# Altium footprint library 610 3xx 243 021.PcbLib: 8 footprints
Each footprint in its own frame and in the unit in brackets; x right, y up, seen from the top. Pads: shape width x height; smd on the part's side, far side on the other; paste and mask are expansions set on the pad; w line width, h text height; cw(c..) or ccw(c..) is an arc to the next point about the centre after c.
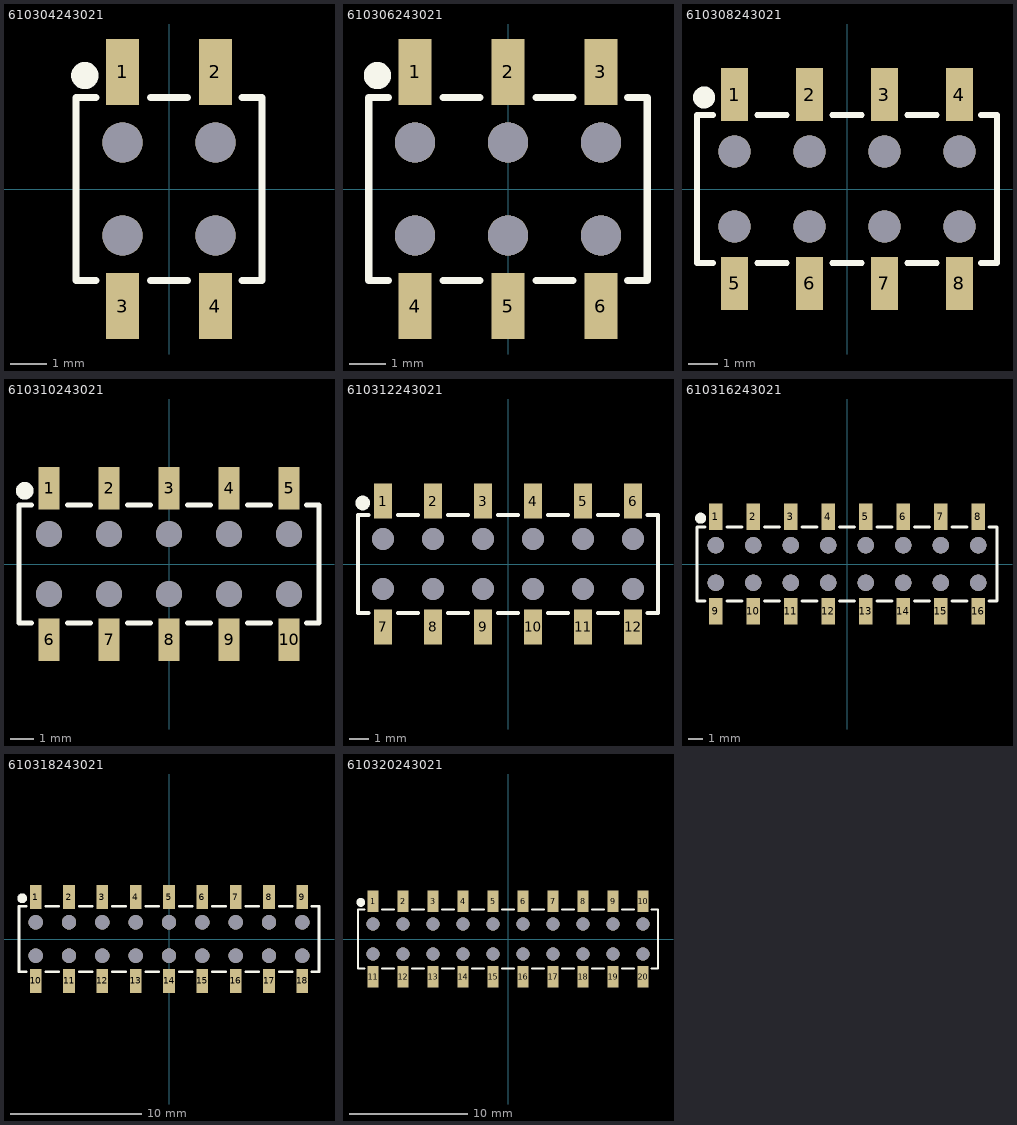
[diagram p0: the footprints below, top view; thin cyan lines are the x and y axes]

## 610304243021 [mm] "SMT Dual Socket Header Bottom Entry, 4 pins"
height 3.7
pads (8):
  rect 0.9x1.8 smd: 1(-1.27,3.2) 2(1.27,3.2) 3(-1.27,-3.2) 4(1.27,-3.2)
  round 1.1 hole 1.1 unplated: ""(-1.27,-1.27) ""(-1.27,1.27) ""(1.27,-1.27) ""(1.27,1.27)
Top Overlay:
  circle w0.5: c-2.3,3.1 r0.122
  lines w0.2: -2,-2.5 -2.54,-2.5 -2.54,2.5 -2,2.5 ; -0.5,-2.5 0.5,-2.5 ; -0.5,2.5 0.5,2.5 ; 2,-2.5 2.54,-2.5 2.54,2.5 2,2.5
3D body "610304243021.stp": height 3.7, standoff 0, extent -2.54,-3.603 2.54,3.603

## 610306243021 [mm] "SMT Dual Socket Header Bottom Entry, 6 pins"
height 3.7
pads (12):
  rect 0.9x1.8 smd: 1(-2.54,3.2) 2(0,3.2) 3(2.54,3.2) 4(-2.54,-3.2) 5(0,-3.2) 6(2.54,-3.2)
  round 1.1 hole 1.1 unplated: ""(-2.54,-1.27) ""(-2.54,1.27) ""(0,-1.27) ""(0,1.27) ""(2.54,-1.27) ""(2.54,1.27)
Top Overlay:
  circle w0.5: c-3.57,3.1 r0.122
  lines w0.2: -3.27,-2.5 -3.81,-2.5 -3.81,2.5 -3.27,2.5 ; -1.77,-2.5 -0.77,-2.5 ; -1.77,2.5 -0.77,2.5 ; 0.77,-2.5 1.77,-2.5 ; 0.77,2.5 1.77,2.5 ; 3.27,-2.5 3.81,-2.5 3.81,2.5 3.27,2.5
3D body "610306243021.stp": height 3.7, standoff 0, extent -3.81,-3.603 3.81,3.603

## 610308243021 [mm] "SMT Dual Socket Header Bottom Entry, 8 pins"
height 3.7
pads (16):
  rect 0.9x1.8 smd: 1(-3.81,3.2) 2(-1.27,3.2) 3(1.27,3.2) 4(3.81,3.2) 5(-3.81,-3.2) 6(-1.27,-3.2) 7(1.27,-3.2) 8(3.81,-3.2)
  round 1.1 hole 1.1 unplated: ""(-3.81,-1.27) ""(-3.81,1.27) ""(-1.27,-1.27) ""(-1.27,1.27) ""(1.27,-1.27) ""(1.27,1.27) ""(3.81,-1.27) ""(3.81,1.27)
Top Overlay:
  circle w0.5: c-4.84,3.1 r0.122
  lines w0.2: -4.54,-2.5 -5.08,-2.5 -5.08,2.5 -4.54,2.5 ; -3.04,-2.5 -2.04,-2.5 ; -3.04,2.5 -2.04,2.5 ; -0.5,-2.5 0.5,-2.5 ; -0.5,2.5 0.5,2.5 ; 2.04,-2.5 3.04,-2.5 ; 2.04,2.5 3.04,2.5 ; 4.54,-2.5 5.08,-2.5 5.08,2.5 4.54,2.5
3D body "610308243021.stp": height 3.7, standoff 0, extent -5.08,-3.603 5.08,3.603

## 610310243021 [mm] "SMT Dual Socket Header Bottom Entry, 10 pins"
height 3.7
pads (20):
  rect 0.9x1.8 smd: 1(-5.08,3.2) 2(-2.54,3.2) 3(0,3.2) 4(2.54,3.2) 5(5.08,3.2) 6(-5.08,-3.2) 7(-2.54,-3.2) 8(0,-3.2) 9(2.54,-3.2) 10(5.08,-3.2)
  round 1.1 hole 1.1 unplated: ""(-5.08,-1.27) ""(-5.08,1.27) ""(-2.54,-1.27) ""(-2.54,1.27) ""(0,-1.27) ""(0,1.27) ""(2.54,-1.27) ""(2.54,1.27) ""(5.08,-1.27) ""(5.08,1.27)
Top Overlay:
  circle w0.5: c-6.11,3.1 r0.122
  lines w0.2: -5.81,-2.5 -6.35,-2.5 -6.35,2.5 -5.81,2.5 ; -4.31,-2.5 -3.31,-2.5 ; -4.31,2.5 -3.31,2.5 ; -1.77,-2.5 -0.77,-2.5 ; -1.77,2.5 -0.77,2.5 ; 0.77,-2.5 1.77,-2.5 ; 0.77,2.5 1.77,2.5 ; 3.31,-2.5 4.31,-2.5 ; 3.31,2.5 4.31,2.5 ; 5.81,-2.5 6.35,-2.5 6.35,2.5 5.81,2.5
3D body "610310243021.stp": height 3.7, standoff 0, extent -6.35,-3.603 6.35,3.603

## 610312243021 [mm] "SMT Dual Socket Header Bottom Entry, 12 pins"
height 3.7
pads (24):
  rect 0.9x1.8 smd: 1(-6.35,3.2) 2(-3.81,3.2) 3(-1.27,3.2) 4(1.27,3.2) 5(3.81,3.2) 6(6.35,3.2) 7(-6.35,-3.2) 8(-3.81,-3.2) 9(-1.27,-3.2) 10(1.27,-3.2) 11(3.81,-3.2) 12(6.35,-3.2)
  round 1.1 hole 1.1 unplated: ""(-6.35,-1.27) ""(-6.35,1.27) ""(-3.81,-1.27) ""(-3.81,1.27) ""(-1.27,-1.27) ""(-1.27,1.27) ""(1.27,-1.27) ""(1.27,1.27) ""(3.81,-1.27) ""(3.81,1.27) ""(6.35,-1.27) ""(6.35,1.27)
Top Overlay:
  circle w0.5: c-7.38,3.1 r0.122
  lines w0.2: -7.08,-2.5 -7.62,-2.5 -7.62,2.5 -7.08,2.5 ; -5.58,-2.5 -4.58,-2.5 ; -5.58,2.5 -4.58,2.5 ; -3.04,-2.5 -2.04,-2.5 ; -3.04,2.5 -2.04,2.5 ; -0.5,-2.5 0.5,-2.5 ; -0.5,2.5 0.5,2.5 ; 2.04,-2.5 3.04,-2.5 ; 2.04,2.5 3.04,2.5 ; 4.58,-2.5 5.58,-2.5 ; 4.58,2.5 5.58,2.5 ; 7.08,-2.5 7.62,-2.5 7.62,2.5 7.08,2.5
3D body "610312243021.stp": height 3.7, standoff 0, extent -7.62,-3.603 7.62,3.603

## 610316243021 [mm] "SMT Dual Socket Header Bottom Entry, 16 pins"
height 3.7
pads (32):
  rect 0.9x1.8 smd: 1(-8.89,3.2) 2(-6.35,3.2) 3(-3.81,3.2) 4(-1.27,3.2) 5(1.27,3.2) 6(3.81,3.2) 7(6.35,3.2) 8(8.89,3.2) 9(-8.89,-3.2) 10(-6.35,-3.2) 11(-3.81,-3.2) 12(-1.27,-3.2) 13(1.27,-3.2) 14(3.81,-3.2) 15(6.35,-3.2) 16(8.89,-3.2)
  round 1.1 hole 1.1 unplated: ""(-8.89,-1.27) ""(-8.89,1.27) ""(-6.35,-1.27) ""(-6.35,1.27) ""(-3.81,-1.27) ""(-3.81,1.27) ""(-1.27,-1.27) ""(-1.27,1.27) ""(1.27,-1.27) ""(1.27,1.27) ""(3.81,-1.27) ""(3.81,1.27) ""(6.35,-1.27) ""(6.35,1.27) ""(8.89,-1.27) ""(8.89,1.27)
Top Overlay:
  circle w0.5: c-9.92,3.1 r0.122
  lines w0.2: -9.62,-2.5 -10.16,-2.5 -10.16,2.5 -9.62,2.5 ; -8.12,-2.5 -7.12,-2.5 ; -8.12,2.5 -7.12,2.5 ; -5.58,-2.5 -4.58,-2.5 ; -5.58,2.5 -4.58,2.5 ; -3.04,-2.5 -2.04,-2.5 ; -3.04,2.5 -2.04,2.5 ; -0.5,-2.5 0.5,-2.5 ; -0.5,2.5 0.5,2.5 ; 2.04,-2.5 3.04,-2.5 ; 2.04,2.5 3.04,2.5 ; 4.58,-2.5 5.58,-2.5 ; 4.58,2.5 5.58,2.5 ; 7.12,-2.5 8.12,-2.5 ; 7.12,2.5 8.12,2.5 ; 9.62,-2.5 10.16,-2.5 10.16,2.5 9.62,2.5
3D body "610316243021.stp": height 3.7, standoff 0, extent -10.16,-3.603 10.16,3.603

## 610318243021 [mm] "SMT Dual Socket Header Bottom Entry, 18 pins"
height 3.7
pads (36):
  rect 0.9x1.8 smd: 1(-10.16,3.2) 2(-7.62,3.2) 3(-5.08,3.2) 4(-2.54,3.2) 5(0,3.2) 6(2.54,3.2) 7(5.08,3.2) 8(7.62,3.2) 9(10.16,3.2) 10(-10.16,-3.2) 11(-7.62,-3.2) 12(-5.08,-3.2) 13(-2.54,-3.2) 14(0,-3.2) 15(2.54,-3.2) 16(5.08,-3.2) 17(7.62,-3.2) 18(10.16,-3.2)
  round 1.1 hole 1.1 unplated: ""(-10.16,-1.27) ""(-10.16,1.27) ""(-7.62,-1.27) ""(-7.62,1.27) ""(-5.08,-1.27) ""(-5.08,1.27) ""(-2.54,-1.27) ""(-2.54,1.27) ""(0,-1.27) ""(0,1.27) ""(2.54,-1.27) ""(2.54,1.27) ""(5.08,-1.27) ""(5.08,1.27) ""(7.62,-1.27) ""(7.62,1.27) ""(10.16,-1.27) ""(10.16,1.27)
Top Overlay:
  circle w0.5: c-11.19,3.1 r0.122
  lines w0.2: -10.89,-2.5 -11.43,-2.5 -11.43,2.5 -10.89,2.5 ; -9.39,-2.5 -8.39,-2.5 ; -9.39,2.5 -8.39,2.5 ; -6.85,-2.5 -5.85,-2.5 ; -6.85,2.5 -5.85,2.5 ; -4.31,-2.5 -3.31,-2.5 ; -4.31,2.5 -3.31,2.5 ; -1.77,-2.5 -0.77,-2.5 ; -1.77,2.5 -0.77,2.5 ; 0.77,-2.5 1.77,-2.5 ; 0.77,2.5 1.77,2.5 ; 3.31,-2.5 4.31,-2.5 ; 3.31,2.5 4.31,2.5 ; 5.85,-2.5 6.85,-2.5 ; 5.85,2.5 6.85,2.5 ; 8.39,-2.5 9.39,-2.5 ; 8.39,2.5 9.39,2.5 ; 10.89,-2.5 11.43,-2.5 11.43,2.5 10.89,2.5
3D body "610318243021.stp": height 3.7, standoff 0, extent -11.43,-3.603 11.43,3.603

## 610320243021 [mm] "SMT Dual Socket Header Bottom Entry, 20 pins"
height 3.7
pads (40):
  rect 0.9x1.8 smd: 1(-11.43,3.2) 2(-8.89,3.2) 3(-6.35,3.2) 4(-3.81,3.2) 5(-1.27,3.2) 6(1.27,3.2) 7(3.81,3.2) 8(6.35,3.2) 9(8.89,3.2) 10(11.43,3.2) 11(-11.43,-3.2) 12(-8.89,-3.2) 13(-6.35,-3.2) 14(-3.81,-3.2) 15(-1.27,-3.2) 16(1.27,-3.2) 17(3.81,-3.2) 18(6.35,-3.2) 19(8.89,-3.2) 20(11.43,-3.2)
  round 1.1 hole 1.1 unplated: ""(-11.43,-1.27) ""(-11.43,1.27) ""(-8.89,-1.27) ""(-8.89,1.27) ""(-6.35,-1.27) ""(-6.35,1.27) ""(-3.81,-1.27) ""(-3.81,1.27) ""(-1.27,-1.27) ""(-1.27,1.27) ""(1.27,-1.27) ""(1.27,1.27) ""(3.81,-1.27) ""(3.81,1.27) ""(6.35,-1.27) ""(6.35,1.27) ""(8.89,-1.27) ""(8.89,1.27) ""(11.43,-1.27) ""(11.43,1.27)
Top Overlay:
  circle w0.5: c-12.46,3.1 r0.122
  lines w0.2: -12.16,-2.5 -12.7,-2.5 -12.7,2.5 -12.16,2.5 ; -10.66,-2.5 -9.66,-2.5 ; -10.66,2.5 -9.66,2.5 ; -8.12,-2.5 -7.12,-2.5 ; -8.12,2.5 -7.12,2.5 ; -5.58,-2.5 -4.58,-2.5 ; -5.58,2.5 -4.58,2.5 ; -3.04,-2.5 -2.04,-2.5 ; -3.04,2.5 -2.04,2.5 ; -0.5,-2.5 0.5,-2.5 ; -0.5,2.5 0.5,2.5 ; 2.04,-2.5 3.04,-2.5 ; 2.04,2.5 3.04,2.5 ; 4.58,-2.5 5.58,-2.5 ; 4.58,2.5 5.58,2.5 ; 7.12,-2.5 8.12,-2.5 ; 7.12,2.5 8.12,2.5 ; 9.66,-2.5 10.66,-2.5 ; 9.66,2.5 10.66,2.5 ; 12.16,-2.5 12.7,-2.5 12.7,2.5 12.16,2.5
3D body "610320243021.stp": height 3.7, standoff 0, extent -12.7,-3.603 12.7,3.603